# Altium footprint library TEMD5080X01.PcbLib: 1 footprints
Each footprint in its own frame and in the unit in brackets; x right, y up, seen from the top. Pads: shape width x height; smd on the part's side, far side on the other; paste and mask are expansions set on the pad; w line width, h text height; cw(c..) or ccw(c..) is an arc to the next point about the centre after c.
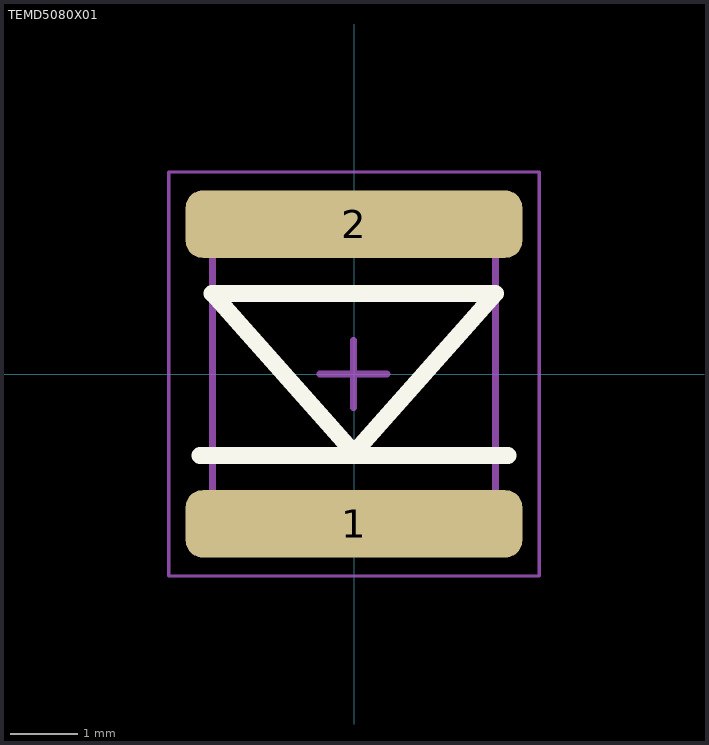
[diagram p0: the footprint, top view; thin cyan lines are the x and y axes]

## TEMD5080X01 [mm]
height 1.1
pads (2):
  rrect50% 5x1 smd: 1(0,-2.225) 2(0,2.225)
Top Overlay:
  lines w0.254: -2.286,-1.209 2.286,-1.209 ; -2.108,1.194 2.098,1.194 -0.019,-1.19 ; -2.098,1.194 0.019,-1.19
Top Assembly:
  lines w0.1: -2.1,-2.525 2.1,-2.525 2.1,2.489 -2.1,2.489 -2.1,-2.525
Top Courtyard:
  lines w0.05: -2.75,-3 2.75,-3 2.75,3 -2.75,3 -2.75,-3
  lines w0.1: -0.509,-0.001 0.491,-0.001 ; -0.009,-0.501 -0.009,0.499
3D body "User Library-TEMD5080X01.step": height 1.12, standoff 0, extent -2.1,-2.5 2.1,2.5